# Altium integrated library Linear Technology Power Management PMIC Multifunction.IntLib: 360 symbols (part 32 of 42)
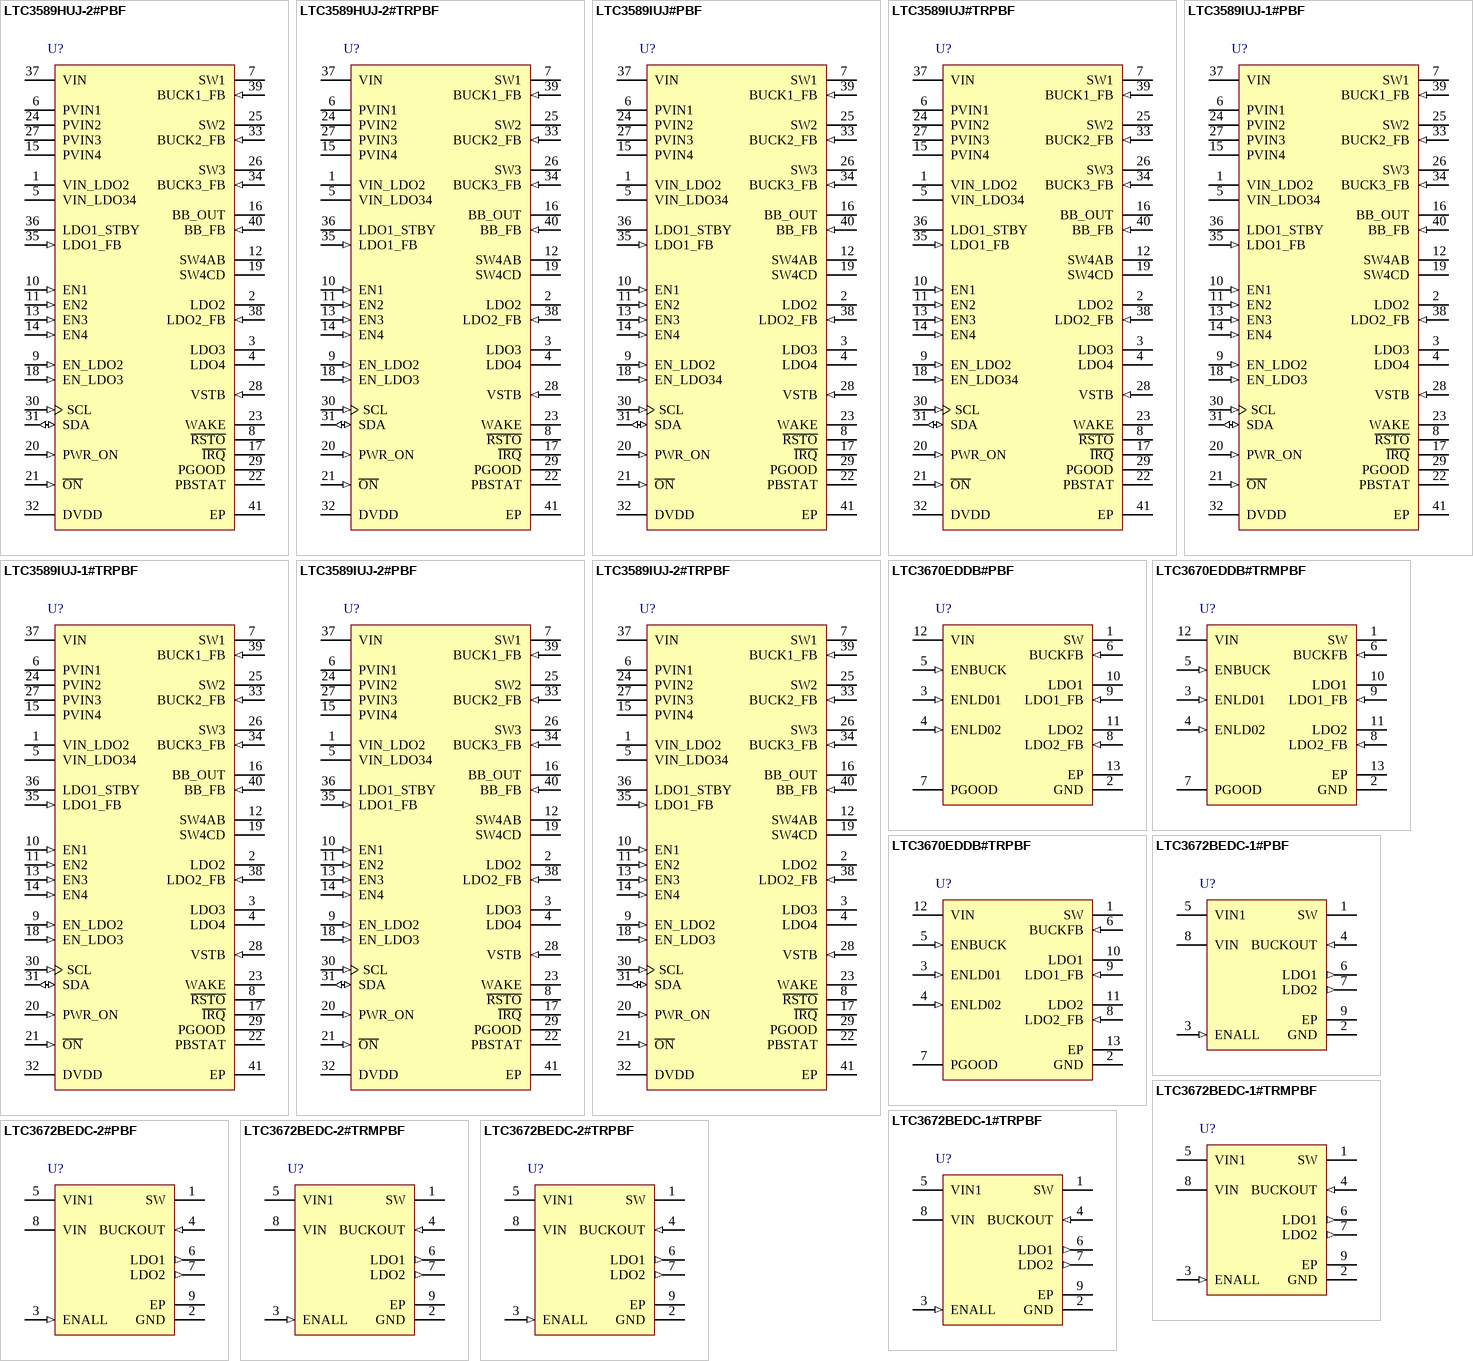
[diagram p49: symbols LTC3589HUJ-2#PBF to LTC3672BEDC-2#TRPBF]

## LTC3672BEDC-2#TRMPBF
designator U?
Monolithic Fixed-Output 400 mA Buck Regulator with Dual 150 mA LDOs, 2.9 to 5.5 V Vin, 8-pin SON (DC8-8), -40 to 85 degC, Pb-Free, Mini Tape and Reel; Manufacturer: Linear Technology; PartNumber: LTC3672BEDC-2#TRMPBF; Number of Outputs: 3; Vin Max(V): 5.5; Vin Min(V): 2.9; DatasheetVersion: Rev. A; PackageVersion: Rev. A, 06/2010; PackageReference: DC8-8; PackageDescription: 8-Pin Plastic DFN, Body 2 x 2 mm, Pitch 0.45 mm; Supplier 1: Digi-Key; Supplier Part Number 1: LTC3672BEDC-2#TRMPBF-ND; Packing: Mini Tape and Reel; RoHS: TRUE; Mounting Technology: Surface Mount; ComponentLink1Description: Manufacturer URL; ComponentLink1URL: http://www.linear.com/; ComponentLink2Description: Datasheet; ComponentLink2URL: http://cds.linear.com/docs/en/datasheet/3672b2fa.pdf; ComponentLink3Description: Package Specification; ComponentLink3URL: http://www.linear.com/docs/en/packaging/DFN_8_05-08-1719.pdf
footprint LT-DC8-8_V (SON, 8-Leads, Body 2x2mm, Pitch 0.45mm, Thermal Pad 1.37x0.64mm)
pins: 1 SW (power) "Switch Node Connection to Inductor. This pin connects to the drains of the buck regulator's main PMOS and synchronous NMOS switches.", 2 GND (power) "Ground.", 3 ENALL (in) "Enables all three outputs when high, shuts down the IC when low. This is a MOS gate input. An internal 5.5Mohm resistor pulls this pin to ground.", 4 BUCKOUT (in) "Output Voltage Sense Connection for the Buck Regulator.", 5 VIN1 (power) "Power Input for the First Low Dropout Linear Regulator, LDO1.", 6 LDO1 (out) "Output of the First Low Dropout Linear Regulator. This pin must be bypassed to ground with a 1uF or greater ceramic capacitor.", 7 LDO2 (out) "Output of the Second Low Dropout Linear Regulator. This pin must be bypassed to ground with a 1uF or greater ceramic capacitor.", 8 VIN (power) "Input Bias Supply for the IC, and Power Input for the Buck Regulator and LDO2. This pin should be bypassed to ground with a 2.2uF or greater ceramic capacitor.", 9 EP (power) "Ground."

## LTC3672BEDC-2#TRPBF
designator U?
Monolithic Fixed-Output 400 mA Buck Regulator with Dual 150 mA LDOs, 2.9 to 5.5 V Vin, 8-pin SON (DC8-8), -40 to 85 degC, Pb-Free, Tape and Reel; Manufacturer: Linear Technology; PartNumber: LTC3672BEDC-2#TRPBF; Number of Outputs: 3; Vin Max(V): 5.5; Vin Min(V): 2.9; DatasheetVersion: Rev. A; PackageVersion: Rev. A, 06/2010; PackageReference: DC8-8; PackageDescription: 8-Pin Plastic DFN, Body 2 x 2 mm, Pitch 0.45 mm; Supplier 1: Digi-Key; Supplier Part Number 1: LTC3672BEDC-2#TRPBF-ND; Packing: Tape and Reel; RoHS: TRUE; Mounting Technology: Surface Mount; ComponentLink1Description: Manufacturer URL; ComponentLink1URL: http://www.linear.com/; ComponentLink2Description: Datasheet; ComponentLink2URL: http://cds.linear.com/docs/en/datasheet/3672b2fa.pdf; ComponentLink3Description: Package Specification; ComponentLink3URL: http://www.linear.com/docs/en/packaging/DFN_8_05-08-1719.pdf
footprint LT-DC8-8_V (SON, 8-Leads, Body 2x2mm, Pitch 0.45mm, Thermal Pad 1.37x0.64mm)
pins: 1 SW (power) "Switch Node Connection to Inductor. This pin connects to the drains of the buck regulator's main PMOS and synchronous NMOS switches.", 2 GND (power) "Ground.", 3 ENALL (in) "Enables all three outputs when high, shuts down the IC when low. This is a MOS gate input. An internal 5.5Mohm resistor pulls this pin to ground.", 4 BUCKOUT (in) "Output Voltage Sense Connection for the Buck Regulator.", 5 VIN1 (power) "Power Input for the First Low Dropout Linear Regulator, LDO1.", 6 LDO1 (out) "Output of the First Low Dropout Linear Regulator. This pin must be bypassed to ground with a 1uF or greater ceramic capacitor.", 7 LDO2 (out) "Output of the Second Low Dropout Linear Regulator. This pin must be bypassed to ground with a 1uF or greater ceramic capacitor.", 8 VIN (power) "Input Bias Supply for the IC, and Power Input for the Buck Regulator and LDO2. This pin should be bypassed to ground with a 2.2uF or greater ceramic capacitor.", 9 EP (power) "Ground."

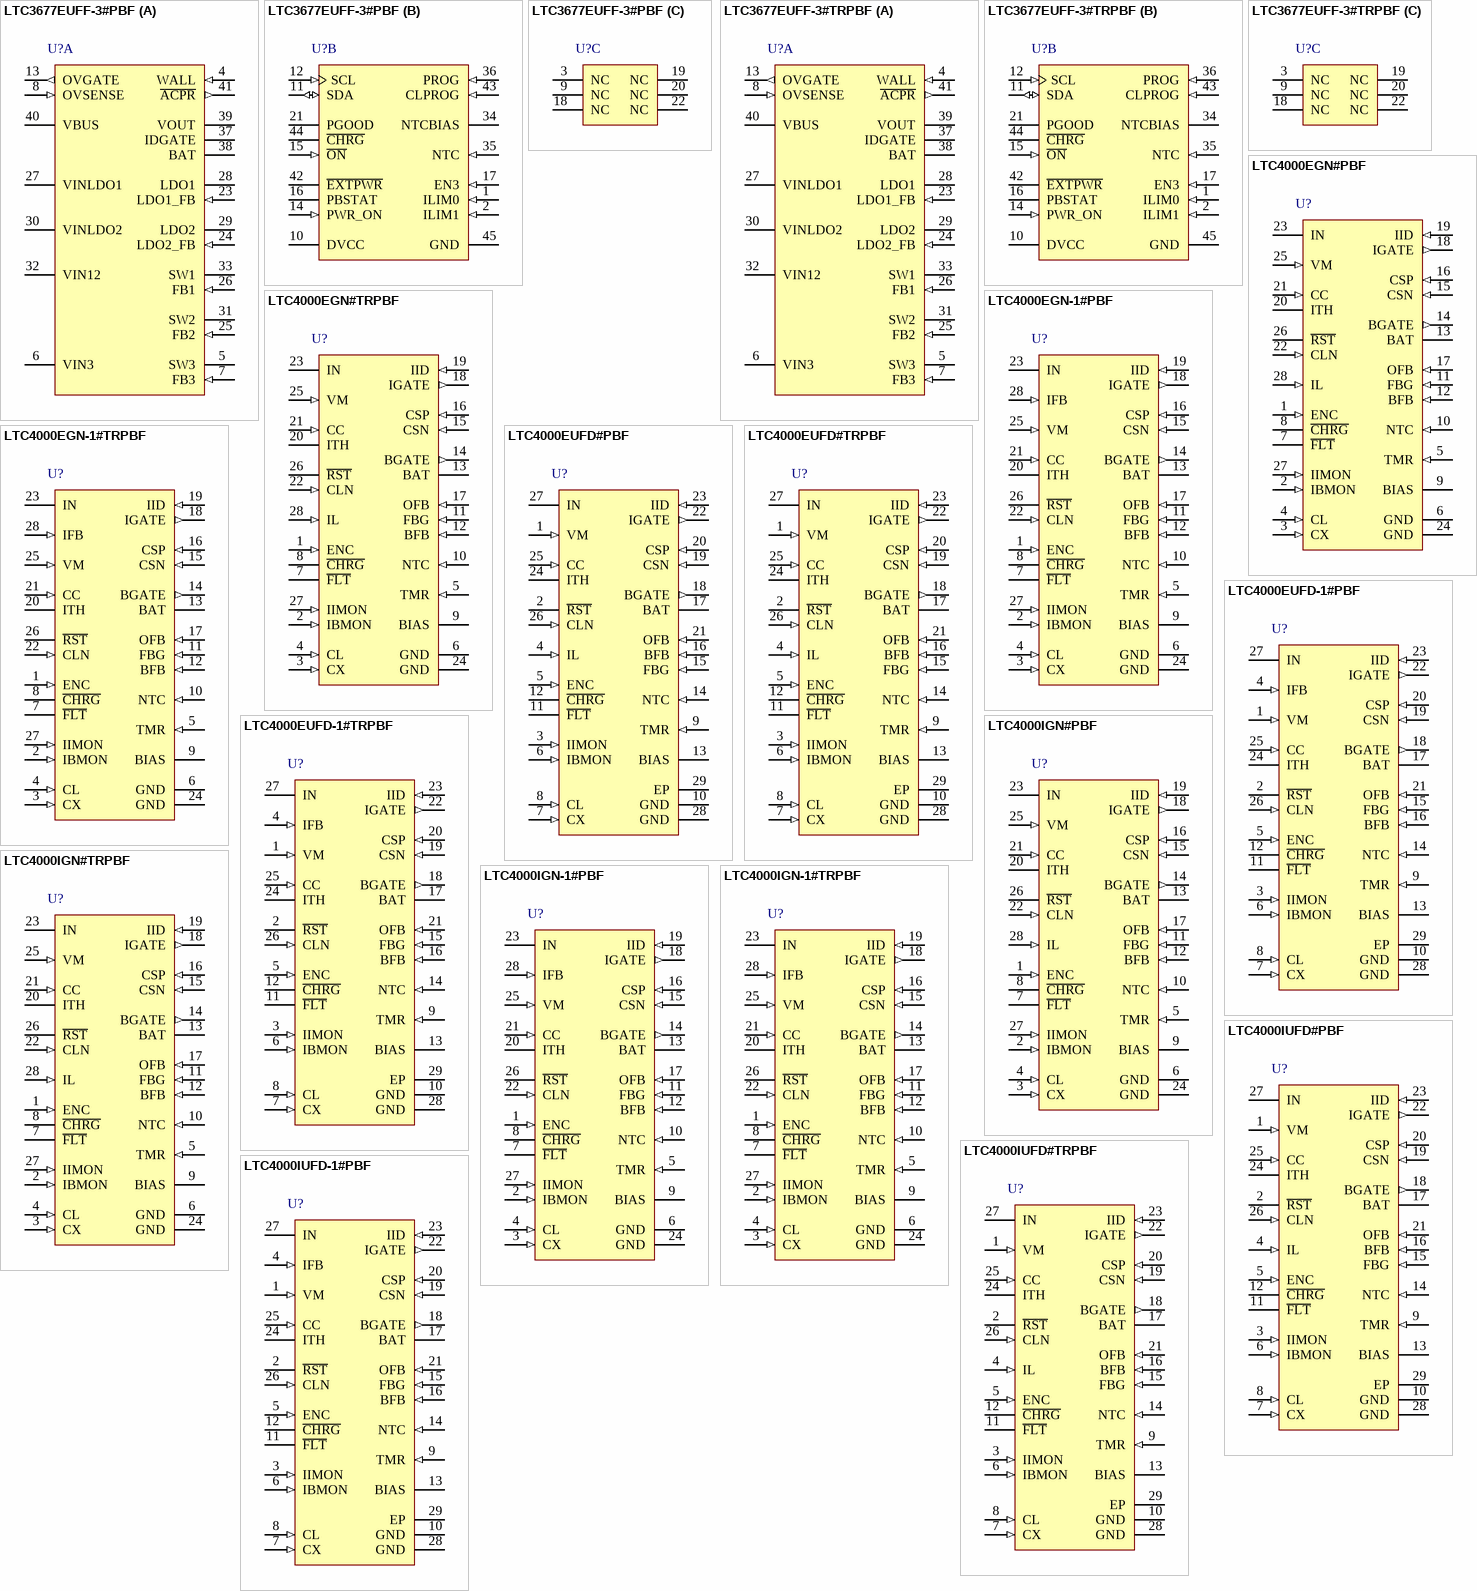
[diagram p14: symbols LTC3677EUFF-3#PBF to LTC4000IUFD-1#PBF]

## LTC3677EUFF-3#PBF
designator U?
Highly Integrated Portable Product PMIC, 4.35 to 5.5 V Vin, 44-pin QFN (UFF-44-V-UFF44MA), -40 to 85 degC, Pb-Free; Manufacturer: Linear Technology; PartNumber: LTC3677EUFF-3#PBF; Number of Cells: 1; Number of Outputs: 5; Vin Max(V): 5.5; Vin Min(V): 4.35; PackageVersion: Rev. A, 06/2010; PackageReference: UFF-44; PackageDescription: 44-Pin Plastic QFN, Body 4 x 7 mm, Pitch 0.4 mm; Supplier 1: Digi-Key; Supplier Part Number 1: LTC3677EUFF-3#PBF-ND; Supplier 2: Farnell; Supplier Part Number 2: 1799851; Supplier 3: Newark; Supplier Part Number 3: 70R5696; RoHS: TRUE; Mounting Technology: Surface Mount; ComponentLink1Description: Manufacturer URL; ComponentLink1URL: http://www.linear.com/; ComponentLink2Description: Datasheet; ComponentLink2URL: http://cds.linear.com/docs/en/datasheet/36773f.pdf; ComponentLink3Description: Package Specification; ComponentLink3URL: http://cds.linear.com/docs/en/packaging/QFN_44_05-08-1762.pdf
footprint LT-UFF-44-V-UFF44MA_V (QFN, 44-Leads, Body 7x4mm, Pitch 0.4mm, Thermal Pad 3.26x2.64mm)
part A pins: 4 WALL (in) "Wall Adapter Present Input. Pulling this pin above 4.3 V will disconnect the power path from VBUS to VOUT . The ACPR pin will also be pulled low to indicate that a wall adapter has been detected.", 5 SW3 (power) "Power Transmission (Switch) Pin for Step-Down Switching Regulator 3 (Buck3).", 6 VIN3 (power) "Power Input for Step-Down Switching Regulator 3. This pin should be connected to VOUT.", 7 FB3 (in) "Feedback Input for Step-Down Switching Regulator 3 (Buck3). This pin servos to a fixed voltage of 0.8 V when the control loop is complete.", 8 OVSENSE (in) "Overvoltage Protection Sense Input.", 13 OVGATE (out) "Overvoltage Protection Gate Output.", 23 LDO1_FB (in) "Feedback Voltage Input for Low Dropout Linear Regulator 1 (LDO1). LDO1 output voltage is set using an external resistor divider between LDO1 and LDO1_FB.", 24 LDO2_FB (in) "Feedback Voltage Input for Low Dropout Linear Regulator 2 (LDO2). LDO2 output voltage is set using an external resistor divider between LDO2 and LDO2_FB.", 25 FB2 (in) "Feedback Input for Step-Down Switching Regulator 2 (Buck2). This pin servos to a fixed voltage of 0.8 V when the control loop is complete.", 26 FB1 (in) "Feedback Input for Step-Down Switching Regulator 1 (Buck1). This pin servos to a fixed voltage of 0.8 V when the control loop is complete.", 27 VINLDO1 (power) "Input Supply of Low Dropout Linear Regulator 1 (LDO1). This pin should be bypassed to ground with a 1 uF or greater ceramic capacitor.", 28 LDO1 (power) "Output of Low Dropout Linear Regulator 1.", 29 LDO2 (power) "Output of Low Dropout Linear Regulator 2. This pin must be bypassed to ground with a 1 uF or greater ceramic capacitor.", 30 VINLDO2 (power) "Input Supply of Low Dropout Linear Regulator 2 (LDO2). This pin should be bypassed to ground with a 1 uF or greater ceramic capacitor.", 31 SW2 (power) "Power Transmission (Switch) Pin for Step-Down Switching Regulator 2 (Buck2).", 32 VIN12 (power) "Power Input for Step-Down Switching Regulators 1 and 2. This pin will generally be connected to VOUT.", 33 SW1 (power) "Power Transmission (Switch) Pin for Step-Down Switching Regulator 1 (Buck1).", 37 IDGATE (hiz) "Ideal Diode Gate Connection. This pin controls the gate of an optional external P-channel MOSFET transistor used to supplement the internal ideal diode.", 38 BAT (power) "Single-Cell Li-Ion Battery Pin. Depending on available power and load, a Li-Ion battery on BAT will either deliver system power to VOUT through the ideal diode or be charged from the battery charger.", 39 VOUT (power) "Output Voltage of the PowerPath Controller and Input Voltage of the Battery Charger.", 40 VBUS (power) "USB Input Voltage.", 41 ~{ACPR} (out) "Wall Adapter Present Output (Active Low)."
part B pins: 1 ILIM0 (in) "Input Current Control Pin.", 2 ILIM1 (in) "Input Current Control Pin.", 10 DVCC (power) "Supply Voltage for I2C Lines.", 11 SDA (io) "I2C Data Input.", 12 SCL (in) "I2C Clock Input.", 14 PWR_ON (in) "Logic Input Used to Keep Buck1, Buck2 and LDO2 Enabled After Power-Up.", 15 ~{ON} (in) "Pushbutton Input.", 16 PBSTAT (oc) "Open-drain output is a debounced and buffered version of ON to be used for processor interrupts.", 17 EN3 (in) "Enable Pin for Step-Down Switching Regulator 3 (Buck3).", 21 PGOOD (hiz) "Open-Drain Output. PGOOD indicates that Buck1, Buck2 and LDO1 are within 8% of final regulation value. There is a 230 ms delay from all regulators reaching regulation and PGOOD going high.", 34 NTCBIAS "Output Bias Voltage for NTC. A resistor from this pin to the NTC pin will bias the NTC thermistor.", 35 NTC (in) "The NTC pin connects to a battery’s thermistor to determine if the battery is too hot or too cold to charge.", 36 PROG (in) "Charge Current Program and Charge Current Monitor Pin.", 42 ~{EXTPWR} (oc) "External Power Present Output (Active Low, Open-Drain Output).", 43 CLPROG (in) "Input Current Program and Input Current Monitor Pin.", 44 ~{CHRG} (hiz) "Open-Drain Charge Status Output.", 45 GND (power) "The exposed package pad is ground and must be soldered to PCB ground for electrical contact and rated thermal performance."
part C pins: 3 NC "No Connect. This pin has no function and may be floated or connected to ground.", 9 NC "No Connect. This pin has no function and may be floated or connected to ground.", 18 NC "No Connect. This pin has no function and may be floated or connected to ground.", 19 NC "No Connect. This pin has no function and may be floated or connected to ground.", 20 NC "No Connect. This pin has no function and may be floated or connected to ground.", 22 NC "No Connect. This pin has no function and may be floated or connected to ground."

## LTC3677EUFF-3#TRPBF
designator U?
Highly Integrated Portable Product PMIC, 4.35 to 5.5 V Vin, 44-pin QFN (UFF-44-V-UFF44MA), -40 to 85 degC, Pb-Free, Tape and Reel; Manufacturer: Linear Technology; PartNumber: LTC3677EUFF-3#TRPBF; Number of Cells: 1; Number of Outputs: 5; Vin Max(V): 5.5; Vin Min(V): 4.35; PackageVersion: Rev. A, 06/2010; PackageReference: UFF-44; PackageDescription: 44-Pin Plastic QFN, Body 4 x 7 mm, Pitch 0.4 mm; Supplier 1: Digi-Key; Supplier Part Number 1: LTC3677EUFF-3#TRPBF-ND; Packing: Tape and Reel; RoHS: TRUE; Mounting Technology: Surface Mount; ComponentLink1Description: Manufacturer URL; ComponentLink1URL: http://www.linear.com/; ComponentLink2Description: Datasheet; ComponentLink2URL: http://cds.linear.com/docs/en/datasheet/36773f.pdf; ComponentLink3Description: Package Specification; ComponentLink3URL: http://cds.linear.com/docs/en/packaging/QFN_44_05-08-1762.pdf
footprint LT-UFF-44-V-UFF44MA_V (QFN, 44-Leads, Body 7x4mm, Pitch 0.4mm, Thermal Pad 3.26x2.64mm)
part A pins: 4 WALL (in) "Wall Adapter Present Input. Pulling this pin above 4.3 V will disconnect the power path from VBUS to VOUT . The ACPR pin will also be pulled low to indicate that a wall adapter has been detected.", 5 SW3 (power) "Power Transmission (Switch) Pin for Step-Down Switching Regulator 3 (Buck3).", 6 VIN3 (power) "Power Input for Step-Down Switching Regulator 3. This pin should be connected to VOUT.", 7 FB3 (in) "Feedback Input for Step-Down Switching Regulator 3 (Buck3). This pin servos to a fixed voltage of 0.8 V when the control loop is complete.", 8 OVSENSE (in) "Overvoltage Protection Sense Input.", 13 OVGATE (out) "Overvoltage Protection Gate Output.", 23 LDO1_FB (in) "Feedback Voltage Input for Low Dropout Linear Regulator 1 (LDO1). LDO1 output voltage is set using an external resistor divider between LDO1 and LDO1_FB.", 24 LDO2_FB (in) "Feedback Voltage Input for Low Dropout Linear Regulator 2 (LDO2). LDO2 output voltage is set using an external resistor divider between LDO2 and LDO2_FB.", 25 FB2 (in) "Feedback Input for Step-Down Switching Regulator 2 (Buck2). This pin servos to a fixed voltage of 0.8 V when the control loop is complete.", 26 FB1 (in) "Feedback Input for Step-Down Switching Regulator 1 (Buck1). This pin servos to a fixed voltage of 0.8 V when the control loop is complete.", 27 VINLDO1 (power) "Input Supply of Low Dropout Linear Regulator 1 (LDO1). This pin should be bypassed to ground with a 1 uF or greater ceramic capacitor.", 28 LDO1 (power) "Output of Low Dropout Linear Regulator 1.", 29 LDO2 (power) "Output of Low Dropout Linear Regulator 2. This pin must be bypassed to ground with a 1 uF or greater ceramic capacitor.", 30 VINLDO2 (power) "Input Supply of Low Dropout Linear Regulator 2 (LDO2). This pin should be bypassed to ground with a 1 uF or greater ceramic capacitor.", 31 SW2 (power) "Power Transmission (Switch) Pin for Step-Down Switching Regulator 2 (Buck2).", 32 VIN12 (power) "Power Input for Step-Down Switching Regulators 1 and 2. This pin will generally be connected to VOUT.", 33 SW1 (power) "Power Transmission (Switch) Pin for Step-Down Switching Regulator 1 (Buck1).", 37 IDGATE (hiz) "Ideal Diode Gate Connection. This pin controls the gate of an optional external P-channel MOSFET transistor used to supplement the internal ideal diode.", 38 BAT (power) "Single-Cell Li-Ion Battery Pin. Depending on available power and load, a Li-Ion battery on BAT will either deliver system power to VOUT through the ideal diode or be charged from the battery charger.", 39 VOUT (power) "Output Voltage of the PowerPath Controller and Input Voltage of the Battery Charger.", 40 VBUS (power) "USB Input Voltage.", 41 ~{ACPR} (out) "Wall Adapter Present Output (Active Low)."
part B pins: 1 ILIM0 (in) "Input Current Control Pin.", 2 ILIM1 (in) "Input Current Control Pin.", 10 DVCC (power) "Supply Voltage for I2C Lines.", 11 SDA (io) "I2C Data Input.", 12 SCL (in) "I2C Clock Input.", 14 PWR_ON (in) "Logic Input Used to Keep Buck1, Buck2 and LDO2 Enabled After Power-Up.", 15 ~{ON} (in) "Pushbutton Input.", 16 PBSTAT (oc) "Open-drain output is a debounced and buffered version of ON to be used for processor interrupts.", 17 EN3 (in) "Enable Pin for Step-Down Switching Regulator 3 (Buck3).", 21 PGOOD (hiz) "Open-Drain Output. PGOOD indicates that Buck1, Buck2 and LDO1 are within 8% of final regulation value. There is a 230 ms delay from all regulators reaching regulation and PGOOD going high.", 34 NTCBIAS "Output Bias Voltage for NTC. A resistor from this pin to the NTC pin will bias the NTC thermistor.", 35 NTC (in) "The NTC pin connects to a battery’s thermistor to determine if the battery is too hot or too cold to charge.", 36 PROG (in) "Charge Current Program and Charge Current Monitor Pin.", 42 ~{EXTPWR} (oc) "External Power Present Output (Active Low, Open-Drain Output).", 43 CLPROG (in) "Input Current Program and Input Current Monitor Pin.", 44 ~{CHRG} (hiz) "Open-Drain Charge Status Output.", 45 GND (power) "The exposed package pad is ground and must be soldered to PCB ground for electrical contact and rated thermal performance."
part C pins: 3 NC "No Connect. This pin has no function and may be floated or connected to ground.", 9 NC "No Connect. This pin has no function and may be floated or connected to ground.", 18 NC "No Connect. This pin has no function and may be floated or connected to ground.", 19 NC "No Connect. This pin has no function and may be floated or connected to ground.", 20 NC "No Connect. This pin has no function and may be floated or connected to ground.", 22 NC "No Connect. This pin has no function and may be floated or connected to ground."

## LTC4000EGN#PBF
designator U?
High Voltage High Current Controller for Battery Charging and Power Management, 3 to 60 V Vin, 28-pin SOP (GN-28), -40 to 125 degC, Pb-Free; Manufacturer: Linear Technology; PartNumber: LTC4000EGN#PBF; Number of Cells: Set by external charger IC; Number of Outputs: 1; Vin Max(V): 60; Vin Min(V): 3; DatasheetVersion: Rev. B; PackageVersion: Rev. B, 03/2012; PackageReference: GN-28; PackageDescription: 28-Pin Plastic SSOP, Body 9.9 x 3.9 mm, Pitch 0.635 mm; Supplier 1: Digi-Key; Supplier Part Number 1: LTC4000EGN#PBF-ND; Supplier 2: Farnell; Supplier Part Number 2: 2097933; Supplier 3: Newark; Supplier Part Number 3: 59T9354; RoHS: TRUE; Mounting Technology: Surface Mount; ComponentLink1Description: Manufacturer URL; ComponentLink1URL: http://www.linear.com/; ComponentLink2Description: Datasheet; ComponentLink2URL: http://cds.linear.com/docs/en/datasheet/4000fb.pdf; ComponentLink3Description: Package Specification; ComponentLink3URL: http://cds.linear.com/docs/en/packaging/05081641_B_GN28.pdf
footprint LT-GN-28_N (SOP, 28-Leads, Body 9.98x3.98mm, Pitch 0.635mm, IPC Medium Density)
footprint LT-GN-28_L (SOP, 28-Leads, Body 9.98x3.98mm, Pitch 0.635mm, IPC High Density)
footprint LT-GN-28_M (SOP, 28-Leads, Body 9.98x3.98mm, Pitch 0.635mm, IPC Low Density)
pins: 1 ENC (in) "Enable Charging Pin. High impedance digital input pin. Pull this pin above 1.5V to enable charging and below 0.5V to disable charging. Leaving this pin open causes the internal 2uA pull-up current to pull the pin to 2.5V (See Datasheet)", 2 IBMON (in) "Battery Charge Current Monitor. The voltage on this pin is 20 times (typical) the sense voltage (VCSP,CSN) across the battery current sense resistor (RCS), therefore providing a voltage proportional to the battery charge (See Datasheet)", 3 CX (in) "Charge Current Termination Programming. Connect the charge current termination programming resistor (RCX) to this pin. This pin is a high impedance input to a comparator and sources 5uA of current. When the voltage on this (See Datasheet)", 4 CL (in) "Charge Current Limit Programming. Connect the charge current programming resistor (RCL) to this pin. This pin sources 50uA of current. The regulation loop compares the voltage on this pin with the charge current monitor (See Datasheet)", 5 TMR (in) "Charge Timer. Attach 1nF of external capacitance (CTMR) to GND for each 104 seconds of charge termination time and 26 seconds of bad battery indicator time. Short to GND to prevent bad battery indicator time and charge (See Datasheet)", 6 GND (power) "Device Ground Pins. Connect the ground pins to a suitable PCB copper ground plane for proper electrical operation. The QFN package exposed pad must be soldered to PCB ground for rated thermal performance.", 7 ~{FLT} (hiz) "Charge Status Indicator Pins. These pins are high voltage open drain pull down pins. The F\L\T\ pin pulls down when there is an under or over temperature condition during charging or when the voltage on the BFB pin stays (See Datasheet)", 8 ~{CHRG} (hiz) "Charge Status Indicator Pins. These pins are high voltage open drain pull down pins. The F\L\T\ pin pulls down when there is an under or over temperature condition during charging or when the voltage on the BFB pin stays (See Datasheet)", 9 BIAS (power) "2.9V Regulator Output. Connect a capacitor of at least 470nF to bypass this 2.9V regulated voltage output. Use this pin to bias the resistor divider to set up the voltage at the NTC pin.", 10 NTC (in) "Thermistor Input. Connect a thermistor from NTC to GND, and a corresponding resistor from BIAS to NTC. The voltage level on this pin determines if the battery temperature is safe for charging. The charge current and charge (See Datasheet)", 11 FBG (in) "Feedback Ground Pin. This is the ground return pin for the resistor dividers connected to the BFB and OFB pins. As soon as the voltage at IN is valid (>3V typical), this pin has a 100ohm resistance to GND. When the voltage (See Datasheet)", 12 BFB (in) "Battery Feedback Voltage Pin. This pin is a high impedance input pin used to sense the battery voltage level. In regulation, the battery float voltage loop sets the voltage on this pin to 1.136V (typical). Connect this pin (See Datasheet)", 13 BAT (power) "Battery Pack Connection. Connect the battery to this pin. This pin is the anode of the battery ideal diode driver (the cathode is the CSN pin).", 14 BGATE (out) "External Battery PMOS Gate Drive Output. When not charging, the BGATE pin drives the external PMOS to behave as an ideal diode from the BAT pin (anode) to the CSN pin (cathode). This allows efficient delivery of any required (See Datasheet)", 15 CSN (in) "Charge Current Sense Negative Input and Battery Ideal Diode Cathode. Connect a sense resistor between this pin and the CSP pin. The LTC4000 senses the voltage across this sense resistor and regulates it to a voltage equal to (See Datasheet)", 16 CSP (in) "Charge Current Sense Positive Input and Input Ideal Diode Cathode. Connect a sense resistor between this pin and the CSN pin for charge current sensing and regulation. This input should be tied to CSN to disable the charge (See Datasheet)", 17 OFB (in) "Output Feedback Voltage Pin. This pin is a high impedance input pin used to sense the output voltage level. In regulation, the output voltage loop sets the voltage on this feedback pin to 1.193V. Connect this pin to the (See Datasheet)", 18 IGATE (out) "Input PMOS Gate Drive Output. The IGATE pin drives the external PMOS to behave as an ideal diode from the IID pin (anode) to the CSP pin (cathode) when the voltage at the IN pin is within its operating range (3V to 60V). To (See Datasheet)", 19 IID (in) "Input Ideal Diode Anode. This pin is the anode of the input ideal diode driver (the cathode is the CSP pin).", 20 ITH "High Impedance Control Voltage Pin. When any of the regulation loops (input current, charge current, battery float voltage or the output voltage) indicate that its limit is reached, the ITH pin will sink current (up to 1mA) (See Datasheet)", 21 CC (in) "Converter Compensation Pin. Connect an R-C network from this pin to the ITH pin to provide a suitable loop compensation for the converter used. Refer to the Applications Information section for discussion and procedure on (See Datasheet)", 22 CLN (in) "Input Current Sense Negative Input. Connect a sense resistor between this pin and the IN pin. The LTC4000 senses the voltage across this sense resistor and regulates it to a voltage equal to 1/20th (typical) of the voltage (See Datasheet)", 23 IN (power) "Input Supply Voltage: 3V to 60V. Supplies power to the internal circuitry and the BIAS pin. Connect the power source to the downstream system and the battery charger to this pin. This pin is also the positive sense pin for (See Datasheet)", 24 GND (power) "Device Ground Pins. Connect the ground pins to a suitable PCB copper ground plane for proper electrical operation. The QFN package exposed pad must be soldered to PCB ground for rated thermal performance.", 25 VM (in) "Voltage Monitor Input. High impedance input to an accurate comparator with a 1.193V threshold (typical). This pin controls the state of the R\S\T\ output pin. Connect a resistor divider (RVM1, RVM2) between the monitored (See Datasheet)", 26 ~{RST} (hiz) "High Voltage Open Drain Reset Output. When the voltage at the VM pin is below 1.193V, this status pin is pulled low. When driven low, this pin can disable a DC/DC converter when connected to the converter’s enable pin(See Datasheet)", 27 IIMON (in) "Input Current Monitor. The voltage on this pin is 20 times (typical) the sense voltage (VIN,CLN) across the input current sense resistor(RIS), therefore providing a voltage proportional to the input current. Connect an (See Datasheet)", 28 IL (in) "Input Current Limit Programming. Connect the input current programming resistor (RIL) to this pin. This pin sources 50uA of current. The regulation loop compares the voltage on this pin with the input current monitor voltage (See Datasheet)"

## LTC4000EGN#TRPBF
designator U?
High Voltage High Current Controller for Battery Charging and Power Management, 3 to 60 V Vin, 28-pin SOP (GN-28), -40 to 125 degC, Pb-Free, Tape and Reel; Manufacturer: Linear Technology; PartNumber: LTC4000EGN#TRPBF; Number of Cells: Set by external charger IC; Number of Outputs: 1; Vin Max(V): 60; Vin Min(V): 3; DatasheetVersion: Rev. B; PackageVersion: Rev. B, 03/2012; PackageReference: GN-28; PackageDescription: 28-Pin Plastic SSOP, Body 9.9 x 3.9 mm, Pitch 0.635 mm; Supplier 1: Digi-Key; Supplier Part Number 1: LTC4000EGN#TRPBF-ND; Supplier 2: Newark; Supplier Part Number 2: 59T9355; Packing: Tape and Reel; RoHS: TRUE; Mounting Technology: Surface Mount; ComponentLink1Description: Manufacturer URL; ComponentLink1URL: http://www.linear.com/; ComponentLink2Description: Datasheet; ComponentLink2URL: http://cds.linear.com/docs/en/datasheet/4000fb.pdf; ComponentLink3Description: Package Specification; ComponentLink3URL: http://cds.linear.com/docs/en/packaging/05081641_B_GN28.pdf
footprint LT-GN-28_N (SOP, 28-Leads, Body 9.98x3.98mm, Pitch 0.635mm, IPC Medium Density)
footprint LT-GN-28_L (SOP, 28-Leads, Body 9.98x3.98mm, Pitch 0.635mm, IPC High Density)
footprint LT-GN-28_M (SOP, 28-Leads, Body 9.98x3.98mm, Pitch 0.635mm, IPC Low Density)
pins: 1 ENC (in) "Enable Charging Pin. High impedance digital input pin. Pull this pin above 1.5V to enable charging and below 0.5V to disable charging. Leaving this pin open causes the internal 2uA pull-up current to pull the pin to 2.5V (See Datasheet)", 2 IBMON (in) "Battery Charge Current Monitor. The voltage on this pin is 20 times (typical) the sense voltage (VCSP,CSN) across the battery current sense resistor (RCS), therefore providing a voltage proportional to the battery charge (See Datasheet)", 3 CX (in) "Charge Current Termination Programming. Connect the charge current termination programming resistor (RCX) to this pin. This pin is a high impedance input to a comparator and sources 5uA of current. When the voltage on this (See Datasheet)", 4 CL (in) "Charge Current Limit Programming. Connect the charge current programming resistor (RCL) to this pin. This pin sources 50uA of current. The regulation loop compares the voltage on this pin with the charge current monitor (See Datasheet)", 5 TMR (in) "Charge Timer. Attach 1nF of external capacitance (CTMR) to GND for each 104 seconds of charge termination time and 26 seconds of bad battery indicator time. Short to GND to prevent bad battery indicator time and charge (See Datasheet)", 6 GND (power) "Device Ground Pins. Connect the ground pins to a suitable PCB copper ground plane for proper electrical operation. The QFN package exposed pad must be soldered to PCB ground for rated thermal performance.", 7 ~{FLT} (hiz) "Charge Status Indicator Pins. These pins are high voltage open drain pull down pins. The F\L\T\ pin pulls down when there is an under or over temperature condition during charging or when the voltage on the BFB pin stays (See Datasheet)", 8 ~{CHRG} (hiz) "Charge Status Indicator Pins. These pins are high voltage open drain pull down pins. The F\L\T\ pin pulls down when there is an under or over temperature condition during charging or when the voltage on the BFB pin stays (See Datasheet)", 9 BIAS (power) "2.9V Regulator Output. Connect a capacitor of at least 470nF to bypass this 2.9V regulated voltage output. Use this pin to bias the resistor divider to set up the voltage at the NTC pin.", 10 NTC (in) "Thermistor Input. Connect a thermistor from NTC to GND, and a corresponding resistor from BIAS to NTC. The voltage level on this pin determines if the battery temperature is safe for charging. The charge current and charge (See Datasheet)", 11 FBG (in) "Feedback Ground Pin. This is the ground return pin for the resistor dividers connected to the BFB and OFB pins. As soon as the voltage at IN is valid (>3V typical), this pin has a 100ohm resistance to GND. When the voltage (See Datasheet)", 12 BFB (in) "Battery Feedback Voltage Pin. This pin is a high impedance input pin used to sense the battery voltage level. In regulation, the battery float voltage loop sets the voltage on this pin to 1.136V (typical). Connect this pin (See Datasheet)", 13 BAT (power) "Battery Pack Connection. Connect the battery to this pin. This pin is the anode of the battery ideal diode driver (the cathode is the CSN pin).", 14 BGATE (out) "External Battery PMOS Gate Drive Output. When not charging, the BGATE pin drives the external PMOS to behave as an ideal diode from the BAT pin (anode) to the CSN pin (cathode). This allows efficient delivery of any required (See Datasheet)", 15 CSN (in) "Charge Current Sense Negative Input and Battery Ideal Diode Cathode. Connect a sense resistor between this pin and the CSP pin. The LTC4000 senses the voltage across this sense resistor and regulates it to a voltage equal to (See Datasheet)", 16 CSP (in) "Charge Current Sense Positive Input and Input Ideal Diode Cathode. Connect a sense resistor between this pin and the CSN pin for charge current sensing and regulation. This input should be tied to CSN to disable the charge (See Datasheet)", 17 OFB (in) "Output Feedback Voltage Pin. This pin is a high impedance input pin used to sense the output voltage level. In regulation, the output voltage loop sets the voltage on this feedback pin to 1.193V. Connect this pin to the (See Datasheet)", 18 IGATE (out) "Input PMOS Gate Drive Output. The IGATE pin drives the external PMOS to behave as an ideal diode from the IID pin (anode) to the CSP pin (cathode) when the voltage at the IN pin is within its operating range (3V to 60V). To (See Datasheet)", 19 IID (in) "Input Ideal Diode Anode. This pin is the anode of the input ideal diode driver (the cathode is the CSP pin).", 20 ITH "High Impedance Control Voltage Pin. When any of the regulation loops (input current, charge current, battery float voltage or the output voltage) indicate that its limit is reached, the ITH pin will sink current (up to 1mA) (See Datasheet)", 21 CC (in) "Converter Compensation Pin. Connect an R-C network from this pin to the ITH pin to provide a suitable loop compensation for the converter used. Refer to the Applications Information section for discussion and procedure on (See Datasheet)", 22 CLN (in) "Input Current Sense Negative Input. Connect a sense resistor between this pin and the IN pin. The LTC4000 senses the voltage across this sense resistor and regulates it to a voltage equal to 1/20th (typical) of the voltage (See Datasheet)", 23 IN (power) "Input Supply Voltage: 3V to 60V. Supplies power to the internal circuitry and the BIAS pin. Connect the power source to the downstream system and the battery charger to this pin. This pin is also the positive sense pin for (See Datasheet)", 24 GND (power) "Device Ground Pins. Connect the ground pins to a suitable PCB copper ground plane for proper electrical operation. The QFN package exposed pad must be soldered to PCB ground for rated thermal performance.", 25 VM (in) "Voltage Monitor Input. High impedance input to an accurate comparator with a 1.193V threshold (typical). This pin controls the state of the R\S\T\ output pin. Connect a resistor divider (RVM1, RVM2) between the monitored (See Datasheet)", 26 ~{RST} (hiz) "High Voltage Open Drain Reset Output. When the voltage at the VM pin is below 1.193V, this status pin is pulled low. When driven low, this pin can disable a DC/DC converter when connected to the converter’s enable pin(See Datasheet)", 27 IIMON (in) "Input Current Monitor. The voltage on this pin is 20 times (typical) the sense voltage (VIN,CLN) across the input current sense resistor(RIS), therefore providing a voltage proportional to the input current. Connect an (See Datasheet)", 28 IL (in) "Input Current Limit Programming. Connect the input current programming resistor (RIL) to this pin. This pin sources 50uA of current. The regulation loop compares the voltage on this pin with the input current monitor voltage (See Datasheet)"

## LTC4000EGN-1#PBF
designator U?
High Voltage High Current Controller for Battery Charging with Maximum Power Point Control, 3 to 60 V Vin, 28-pin SOP (GN-28), -40 to 125 degC, Pb-Free; Manufacturer: Linear Technology; PartNumber: LTC4000EGN-1#PBF; Number of Cells: Set by external charger IC; Number of Outputs: 1; Vin Max(V): 60; Vin Min(V): 3; DatasheetVersion: Rev. A; PackageVersion: Rev. B, 03/2012; PackageReference: GN-28; PackageDescription: 28-Pin Plastic SSOP, Body 9.9 x 3.9 mm, Pitch 0.635 mm; Supplier 1: Digi-Key; Supplier Part Number 1: LTC4000EGN-1#PBF-ND; Supplier 2: Newark; Supplier Part Number 2: 28W4616; RoHS: TRUE; Mounting Technology: Surface Mount; ComponentLink1Description: Manufacturer URL; ComponentLink1URL: http://www.linear.com/; ComponentLink2Description: Datasheet; ComponentLink2URL: http://cds.linear.com/docs/en/datasheet/40001fa.pdf; ComponentLink3Description: Package Specification; ComponentLink3URL: http://cds.linear.com/docs/en/packaging/05081641_B_GN28.pdf
footprint LT-GN-28_N (SOP, 28-Leads, Body 9.98x3.98mm, Pitch 0.635mm, IPC Medium Density)
footprint LT-GN-28_L (SOP, 28-Leads, Body 9.98x3.98mm, Pitch 0.635mm, IPC High Density)
footprint LT-GN-28_M (SOP, 28-Leads, Body 9.98x3.98mm, Pitch 0.635mm, IPC Low Density)
pins: 1 ENC (in) "Enable Charging Pin. High impedance digital input pin. Pull this pin above 1.5V to enable charging and below 0.5V to disable charging. Leaving this pin open causes the internal 2uA pull-up current to pull the pin to 2.5V (See Datasheet)", 2 IBMON (in) "Battery Charge Current Monitor. The voltage on this pin is 20 times (typical) the sense voltage (VCSP,CSN) across the battery current sense resistor (RCS), therefore providing a voltage proportional to the battery charge (See Datasheet)", 3 CX (in) "Charge Current Termination Programming. Connect the charge current termination programming resistor (RCX) to this pin. This pin is a high impedance input to a comparator and sources 5uA of current. When the voltage on this (See Datasheet)", 4 CL (in) "Charge Current Limit Programming. Connect the charge current programming resistor (RCL) to this pin. This pin sources 50uA of current. The regulation loop compares the voltage on this pin with the charge current monitor (See Datasheet)", 5 TMR (in) "Charge Timer. Attach 1nF of external capacitance (CTMR) to GND for each 104 seconds of charge termination time and 26 seconds of bad battery indicator time. Short to GND to prevent bad battery indicator time and charge (See Datasheet)", 6 GND (power) "Device Ground Pins. Connect the ground pins to a suitable PCB copper ground plane for proper electrical operation. The QFN package exposed pad must be soldered to PCB ground for rated thermal performance.", 7 ~{FLT} (hiz) "Charge Status Indicator Pins. These pins are high voltage open drain pull down pins. The F\L\T\ pin pulls down when there is an under or over temperature condition during charging or when the voltage on the BFB pin stays (See Datasheet)", 8 ~{CHRG} (hiz) "Charge Status Indicator Pins. These pins are high voltage open drain pull down pins. The F\L\T\ pin pulls down when there is an under or over temperature condition during charging or when the voltage on the BFB pin stays (See Datasheet)", 9 BIAS (power) "2.9V Regulator Output. Connect a capacitor of at least 470nF to bypass this 2.9V regulated voltage output. Use this pin to bias the resistor divider to set up the voltage at the NTC pin.", 10 NTC (in) "Thermistor Input. Connect a thermistor from NTC to GND, and a corresponding resistor from BIAS to NTC. The voltage level on this pin determines if the battery temperature is safe for charging. The charge current and charge (See Datasheet)", 11 FBG (in) "Feedback Ground Pin. This is the ground return pin for the resistor dividers connected to the BFB and OFB pins. As soon as the voltage at IN is valid (>3V typical), this pin has a 100ohm resistance to GND. When the voltage (See Datasheet)", 12 BFB (in) "Battery Feedback Voltage Pin. This pin is a high impedance input pin used to sense the battery voltage level. In regulation, the battery float voltage loop sets the voltage on this pin to 1.136V (typical). Connect this pin (See Datasheet)", 13 BAT (power) "Battery Pack Connection. Connect the battery to this pin. This pin is the anode of the battery ideal diode driver (the cathode is the CSN pin).", 14 BGATE (out) "External Battery PMOS Gate Drive Output. When not charging, the BGATE pin drives the external PMOS to behave as an ideal diode from the BAT pin (anode) to the CSN pin (cathode). This allows efficient delivery of any required (See Datasheet)", 15 CSN (in) "Charge Current Sense Negative Input and Battery Ideal Diode Cathode. Connect a sense resistor between this pin and the CSP pin. The LTC4000-1 senses the voltage across this sense resistor and regulates it to a voltage equal (See Datasheet)", 16 CSP (in) "Charge Current Sense Positive Input and Input Ideal Diode Cathode. Connect a sense resistor between this pin and the CSN pin for charge current sensing and regulation. This input should be tied to CSN to disable the charge (See Datasheet)", 17 OFB (in) "Output Feedback Voltage Pin. This pin is a high impedance input pin used to sense the output voltage level. In regulation, the output voltage loop sets the voltage on this feedback pin to 1.193V. Connect this pin to the (See Datasheet)", 18 IGATE (out) "Input PMOS Gate Drive Output. The IGATE pin drives the external PMOS to behave as an ideal diode from the IID pin (anode) to the CSP pin (cathode) when the voltage at the IN pin is within its operating range (3V to 60V). To (See Datasheet)", 19 IID (in) "Input Ideal Diode Anode. This pin is the anode of the input ideal diode driver (the cathode is the CSP pin).", 20 ITH "High Impedance Control Voltage Pin. When any of the regulation loops (input voltage, charge current, battery float voltage or the output voltage) indicate that its limit is reached, the ITH pin will sink current (up to 1mA) (See Datasheet)", 21 CC (in) "Converter Compensation Pin. Connect an R-C network from this pin to the ITH pin to provide a suitable loop compensation for the converter used. Refer to the Applications Information section for discussion and procedure on (See Datasheet)", 22 CLN (in) "Input Current Sense Negative Input. Connect a sense resistor between this pin and the IN pin. The LTC4000-1 senses the voltage across this sense resistor and sets the voltage on the IIMON pin equal to 20 times this voltage. (See Datasheet)", 23 IN (power) "Input Supply Voltage: 3V to 60V. Supplies power to the internal circuitry and the BIAS pin. Connect the power source to the downstream system and the battery charger to this pin. This pin is also the positive sense pin for (See Datasheet)", 24 GND (power) "Device Ground Pins. Connect the ground pins to a suitable PCB copper ground plane for proper electrical operation. The QFN package exposed pad must be soldered to PCB ground for rated thermal performance.", 25 VM (in) "Voltage Monitor Input. High impedance input to an accurate comparator with a 1.193V threshold (typical). This pin controls the state of the R\S\T\ output pin. Connect a resistor divider (RVM1, RVM2) between the monitored (See Datasheet)", 26 ~{RST} (hiz) "High Voltage Open Drain Reset Output. When the voltage at the VM pin is below 1.193V, this status pin is pulled low. When driven low, this pin can disable a DC/DC converter when connected to the converter’s enable pin(See Datasheet)", 27 IIMON (in) "Input Current Monitor. The voltage on this pin is 20 times (typical) the sense voltage (VIN,CLN) across the input current sense resistor(RIS), therefore providing a voltage proportional to the input current. Connect an (See Datasheet)", 28 IFB (in) "Input Voltage Feedback Pin. This pin is a high impedance input pin used to sense the input voltage level. In regulation, the input voltage loop sets the voltage on this feedback pin to 1.000V. When the input feedback voltage (See Datasheet)"

## LTC4000EGN-1#TRPBF
designator U?
High Voltage High Current Controller for Battery Charging with Maximum Power Point Control, 3 to 60 V Vin, 28-pin SOP (GN-28), -40 to 125 degC, Pb-Free, Tape and Reel; Manufacturer: Linear Technology; PartNumber: LTC4000EGN-1#TRPBF; Number of Cells: Set by external charger IC; Number of Outputs: 1; Vin Max(V): 60; Vin Min(V): 3; DatasheetVersion: Rev. A; PackageVersion: Rev. B, 03/2012; PackageReference: GN-28; PackageDescription: 28-Pin Plastic SSOP, Body 9.9 x 3.9 mm, Pitch 0.635 mm; Supplier 1: Digi-Key; Supplier Part Number 1: LTC4000EGN-1#TRPBF-ND; Supplier 2: Newark; Supplier Part Number 2: 28W4617; Packing: Tape and Reel; RoHS: TRUE; Mounting Technology: Surface Mount; ComponentLink1Description: Manufacturer URL; ComponentLink1URL: http://www.linear.com/; ComponentLink2Description: Datasheet; ComponentLink2URL: http://cds.linear.com/docs/en/datasheet/40001fa.pdf; ComponentLink3Description: Package Specification; ComponentLink3URL: http://cds.linear.com/docs/en/packaging/05081641_B_GN28.pdf
footprint LT-GN-28_N (SOP, 28-Leads, Body 9.98x3.98mm, Pitch 0.635mm, IPC Medium Density)
footprint LT-GN-28_L (SOP, 28-Leads, Body 9.98x3.98mm, Pitch 0.635mm, IPC High Density)
footprint LT-GN-28_M (SOP, 28-Leads, Body 9.98x3.98mm, Pitch 0.635mm, IPC Low Density)
pins: 1 ENC (in) "Enable Charging Pin. High impedance digital input pin. Pull this pin above 1.5V to enable charging and below 0.5V to disable charging. Leaving this pin open causes the internal 2uA pull-up current to pull the pin to 2.5V (See Datasheet)", 2 IBMON (in) "Battery Charge Current Monitor. The voltage on this pin is 20 times (typical) the sense voltage (VCSP,CSN) across the battery current sense resistor (RCS), therefore providing a voltage proportional to the battery charge (See Datasheet)", 3 CX (in) "Charge Current Termination Programming. Connect the charge current termination programming resistor (RCX) to this pin. This pin is a high impedance input to a comparator and sources 5uA of current. When the voltage on this (See Datasheet)", 4 CL (in) "Charge Current Limit Programming. Connect the charge current programming resistor (RCL) to this pin. This pin sources 50uA of current. The regulation loop compares the voltage on this pin with the charge current monitor (See Datasheet)", 5 TMR (in) "Charge Timer. Attach 1nF of external capacitance (CTMR) to GND for each 104 seconds of charge termination time and 26 seconds of bad battery indicator time. Short to GND to prevent bad battery indicator time and charge (See Datasheet)", 6 GND (power) "Device Ground Pins. Connect the ground pins to a suitable PCB copper ground plane for proper electrical operation. The QFN package exposed pad must be soldered to PCB ground for rated thermal performance.", 7 ~{FLT} (hiz) "Charge Status Indicator Pins. These pins are high voltage open drain pull down pins. The F\L\T\ pin pulls down when there is an under or over temperature condition during charging or when the voltage on the BFB pin stays (See Datasheet)", 8 ~{CHRG} (hiz) "Charge Status Indicator Pins. These pins are high voltage open drain pull down pins. The F\L\T\ pin pulls down when there is an under or over temperature condition during charging or when the voltage on the BFB pin stays (See Datasheet)", 9 BIAS (power) "2.9V Regulator Output. Connect a capacitor of at least 470nF to bypass this 2.9V regulated voltage output. Use this pin to bias the resistor divider to set up the voltage at the NTC pin.", 10 NTC (in) "Thermistor Input. Connect a thermistor from NTC to GND, and a corresponding resistor from BIAS to NTC. The voltage level on this pin determines if the battery temperature is safe for charging. The charge current and charge (See Datasheet)", 11 FBG (in) "Feedback Ground Pin. This is the ground return pin for the resistor dividers connected to the BFB and OFB pins. As soon as the voltage at IN is valid (>3V typical), this pin has a 100ohm resistance to GND. When the voltage (See Datasheet)", 12 BFB (in) "Battery Feedback Voltage Pin. This pin is a high impedance input pin used to sense the battery voltage level. In regulation, the battery float voltage loop sets the voltage on this pin to 1.136V (typical). Connect this pin (See Datasheet)", 13 BAT (power) "Battery Pack Connection. Connect the battery to this pin. This pin is the anode of the battery ideal diode driver (the cathode is the CSN pin).", 14 BGATE (out) "External Battery PMOS Gate Drive Output. When not charging, the BGATE pin drives the external PMOS to behave as an ideal diode from the BAT pin (anode) to the CSN pin (cathode). This allows efficient delivery of any required (See Datasheet)", 15 CSN (in) "Charge Current Sense Negative Input and Battery Ideal Diode Cathode. Connect a sense resistor between this pin and the CSP pin. The LTC4000-1 senses the voltage across this sense resistor and regulates it to a voltage equal (See Datasheet)", 16 CSP (in) "Charge Current Sense Positive Input and Input Ideal Diode Cathode. Connect a sense resistor between this pin and the CSN pin for charge current sensing and regulation. This input should be tied to CSN to disable the charge (See Datasheet)", 17 OFB (in) "Output Feedback Voltage Pin. This pin is a high impedance input pin used to sense the output voltage level. In regulation, the output voltage loop sets the voltage on this feedback pin to 1.193V. Connect this pin to the (See Datasheet)", 18 IGATE (out) "Input PMOS Gate Drive Output. The IGATE pin drives the external PMOS to behave as an ideal diode from the IID pin (anode) to the CSP pin (cathode) when the voltage at the IN pin is within its operating range (3V to 60V). To (See Datasheet)", 19 IID (in) "Input Ideal Diode Anode. This pin is the anode of the input ideal diode driver (the cathode is the CSP pin).", 20 ITH "High Impedance Control Voltage Pin. When any of the regulation loops (input voltage, charge current, battery float voltage or the output voltage) indicate that its limit is reached, the ITH pin will sink current (up to 1mA) (See Datasheet)", 21 CC (in) "Converter Compensation Pin. Connect an R-C network from this pin to the ITH pin to provide a suitable loop compensation for the converter used. Refer to the Applications Information section for discussion and procedure on (See Datasheet)", 22 CLN (in) "Input Current Sense Negative Input. Connect a sense resistor between this pin and the IN pin. The LTC4000-1 senses the voltage across this sense resistor and sets the voltage on the IIMON pin equal to 20 times this voltage. (See Datasheet)", 23 IN (power) "Input Supply Voltage: 3V to 60V. Supplies power to the internal circuitry and the BIAS pin. Connect the power source to the downstream system and the battery charger to this pin. This pin is also the positive sense pin for (See Datasheet)", 24 GND (power) "Device Ground Pins. Connect the ground pins to a suitable PCB copper ground plane for proper electrical operation. The QFN package exposed pad must be soldered to PCB ground for rated thermal performance.", 25 VM (in) "Voltage Monitor Input. High impedance input to an accurate comparator with a 1.193V threshold (typical). This pin controls the state of the R\S\T\ output pin. Connect a resistor divider (RVM1, RVM2) between the monitored (See Datasheet)", 26 ~{RST} (hiz) "High Voltage Open Drain Reset Output. When the voltage at the VM pin is below 1.193V, this status pin is pulled low. When driven low, this pin can disable a DC/DC converter when connected to the converter’s enable pin(See Datasheet)", 27 IIMON (in) "Input Current Monitor. The voltage on this pin is 20 times (typical) the sense voltage (VIN,CLN) across the input current sense resistor(RIS), therefore providing a voltage proportional to the input current. Connect an (See Datasheet)", 28 IFB (in) "Input Voltage Feedback Pin. This pin is a high impedance input pin used to sense the input voltage level. In regulation, the input voltage loop sets the voltage on this feedback pin to 1.000V. When the input feedback voltage (See Datasheet)"